# Altium schematic symbol library Ramp-generator.SCHLIB: 58 symbols
Pins are listed as number, name and electrical type; pins without a type are passive.

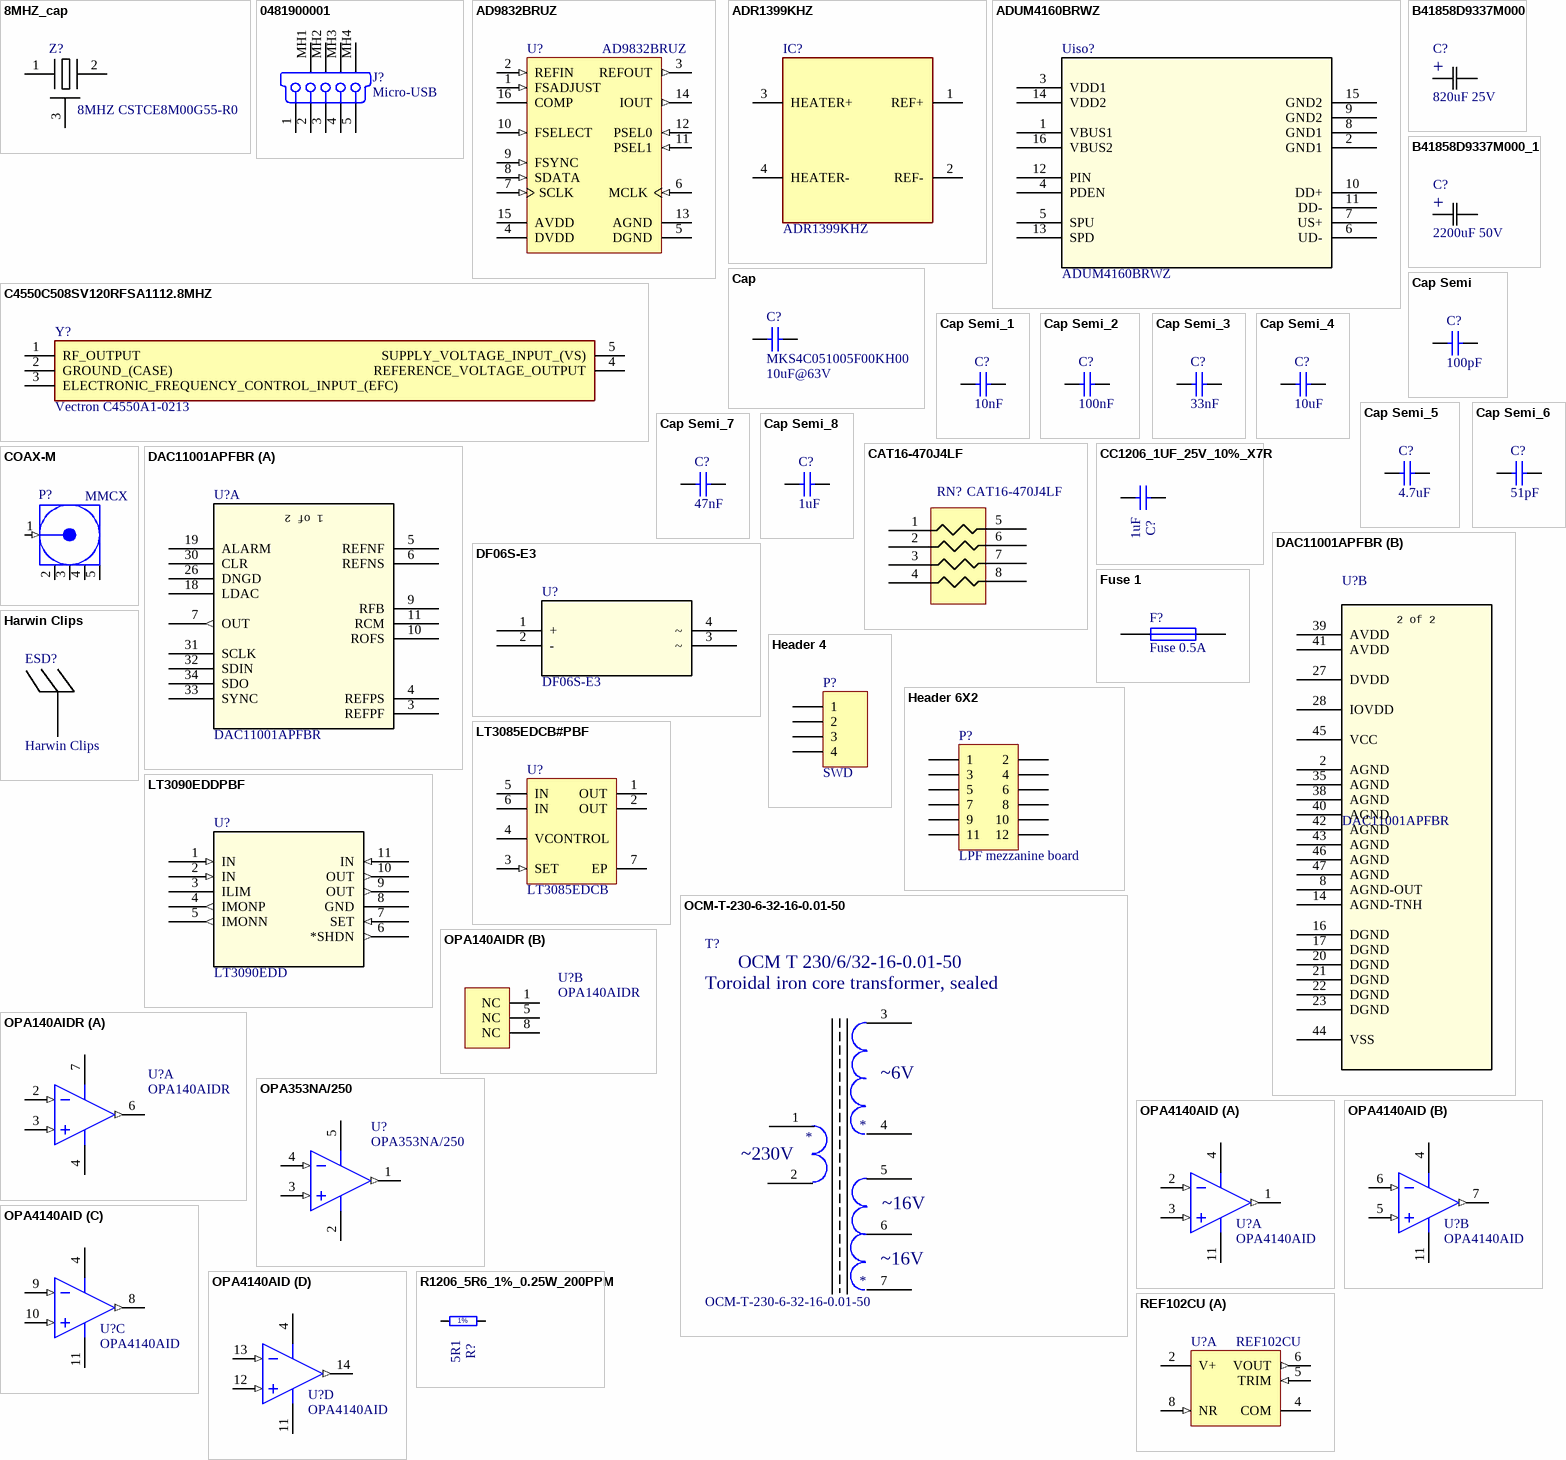
[diagram p0: symbols 8MHZ_cap to REF102CU]

## 8MHZ_cap
designator Z?, comment 8MHZ CSTCE8M00G55-R0
footprint PRQV8.00CR5010Y000
pins: 1 50, 2, 3 50

## 0481900001
designator J?, comment Micro-USB
USB On-The-Go (OTG) Mini-B Receptacle, Right Angle, SMT, 0.80mm (.031") Pitch, Solder Tabs with Back Cover, Recessed Type; Order: Molex 47346-0001
signal-integrity model USB Mini-B
footprint Miniusb-b
footprint 47346-0001 (Molex Mico-USB)
footprint 10118193-0001LF
pins: 1 V BUS (5V) "USB Vcc [Red]", 2 D- "USB Data - [White]", 3 D+ "USB Data + [Green]", 4 NC "Not Connected (or joined to pin 5 via resistor)", 5 GND "Ground [Black]", MH1 Tab "Shell", MH2 Tab "Shell", MH3 Tab "Shell", MH4 Tab "Shell"

## AD9832BRUZ
designator U?
25 MHz Direct Digital Synthesizer, Waveform Generator, 10-Bit, Serial, RU-16, 96 Tube, Pb-Free; Master fclk: 25MHz; Resolution (Bits): 10bit; Tuning Word Width (bits): 32bit; REFCLK Multiplier: No; Compliance Range (V): 1.35V; FS Iout (mA nom): 4mA; I Supply total (max): 15mA; DatasheetVersion: Rev. C; PackageVersion: Nov-2002; PackageReference: RU-16; PackageDescription: 16-Lead Thin Shrink Small Outline Package [TSSOP]; I/O Interface: Serial; Code_JEDEC: MO-153AB; ComponentLink1Description: Manufacturer URL; ComponentLink1URL: www.analog.com; ComponentLink2Description: Datasheet; ComponentLink2URL: http://www.analog.com/static/imported-files/data_sheets/AD9832.pdf; ComponentLink3Description: Package Specification; ComponentLink3URL: http://www.analog.com/static/imported-files/packages/36244347913743854010197452789RU16.pdf
footprint ADI-RU-16_N (TSOP, 16-Leads, Body 5x4.4mm, Pitch 0.65mm, IPC Medium Density)
footprint ADI-RU-16_L (TSOP, 16-Leads, Body 5x4.4mm, Pitch 0.65mm, IPC High Density)
footprint ADI-RU-16_M (TSOP, 16-Leads, Body 5x4.4mm, Pitch 0.65mm, IPC Low Density)
pins: 1 FSADJUST (in) "Full-Scale Adjust Control. A resistor (RSET) is connected between this pin and AGND. This determines the  magnitude of the full-scale DAC current. [see datasheet]", 2 REFIN (in) "Voltage Reference Input. The AD9832 can be used with either the on-board reference, which is available from   the REFOUT pin, or an external reference. [see datasheet]", 3 REFOUT (out) "Voltage Reference Output. The AD9832 has an on-board reference of value 1.21 V nominal. The reference is  available on the REFOUT pin. [see datasheet]", 4 DVDD (power) "Positive Power Supply for the Digital Section. A 0.1 uF decoupling capacitor should be connected between   DVDD and DGND. DVDD can have a value of 5 V +/- 10% or 3.3 V +/- 0%", 5 DGND (power) "Digital Ground", 6 MCLK (in) "Digital Clock Input. DDS output frequencies are expressed as a binary fraction of the frequency of MCLK. This  clock determines the output frequency accuracy and phase noise", 7 SCLK (in) "Serial Clock, Logic Input. Data is clocked into the AD9832 on each falling SCLK edge.", 8 SDATA (in) "Serial Data In, Logic Input. The 16-bit serial data-word is applied to this input.", 9 FSYNC (in) "Data Synchronization Signal, Logic Input. When this input goes low, the internal logic is informed that  a new word is being loaded into the devic", 10 FSELECT (in) "Frequency Select Input. FSELECT controls which frequency register, FREQ0 or FREQ1, is used in the phase  accumulator. The frequency register to be used can be selected using the FSELECT pin or the FSELECT bit. [see datasheet]", 11 PSEL1 (in) "Phase Select Input. The AD9832 has four phase registers. These registers can be used to alter the value being  input to the SIN ROM. [see datasheet]", 12 PSEL0 (in) "Phase Select Input. The AD9832 has four phase registers. These registers can be used to alter the value being  input to the SIN ROM. [see datasheet]", 13 AGND (power) "Analog Ground", 14 IOUT (out) "Current Output. This is a high impedance current source. A load resistor should be connected between IOUT and AGN", 15 AVDD (power) "Positive Power Supply for the Analog Section. A 0.1 uF decoupling capacitor should be connected between  AVDD and AGND. AVDD can have a value of 5 V +/- 10% or 3.3 V +/- 10", 16 COMP "Compensation Pin. This is a compensation pin for the internal reference amplifier. A 10 nF decoupling ceramic capacitor should be connected between COMP and AVDD."

## ADR1399KHZ
designator IC?
Integrated Circuit; Manufacturer_Name: Analog Devices; Datasheet Link: https://www.analog.com/media/en/technical-documentation/data-sheets/adr1399.pdf; Height: 2.667mm; Manufacturer_Part_Number: ADR1399KHZ
footprint ADR1399KHZ
pins: 1 REF+, 2 REF-, 3 HEATER+, 4 HEATER-

## ADUM4160BRWZ
designator Uiso?
No Description Available; Vendor: Analog Devices Inc; Built_By: EMA_UL_Team; SourceLibrary: Analog_2015-12-15; Manufacturer_Part_Number: ADUM4160BRWZ; Copyright: Copyright (C) 2018 Accelerated Designs. All rights reserved; RefDes: RefDes; Type: DEV
footprint RW_16_ADI
pins: 1 VBUS1, 2 GND1, 3 VDD1, 4 PDEN, 5 SPU, 6 UD-, 7 US+, 8 GND1, 9 GND2, 10 DD+, 11 DD-, 12 PIN, 13 SPD, 14 VDD2, 15 GND2, 16 VBUS2

## B41858D9337M000
designator C?, comment 820uF 25V
No Description Available; Manufacturer_Part_Number: B41858D9337M000; Vendor: TDK; Built_By: EMA_Matt; SourceLibrary: Add_to_database_2021-01-04; Type: DEV; Datasheet: https://product.tdk.com/info/en/documents/data_sheet/20/30/db/aec/B41858.pdf; Copyright: Copyright (C) 2018 Accelerated Designs. All rights reserved; RefDes: RefDes
footprint CAP_37M000_TDK
pins: 1, 2
text: +

## B41858D9337M000_1
designator C?, comment 2200uF 50V
No Description Available; Manufacturer_Part_Number: B41858D9337M000; Vendor: TDK; Built_By: EMA_Matt; SourceLibrary: Add_to_database_2021-01-04; Type: DEV; Datasheet: https://product.tdk.com/info/en/documents/data_sheet/20/30/db/aec/B41858.pdf; Copyright: Copyright (C) 2018 Accelerated Designs. All rights reserved; RefDes: RefDes
footprint CAP_37M000_TDK
pins: 1, 2
text: +

## C4550C508SV120RFSA1112.8MHZ
designator Y?, comment Vectron C4550A1-0213
Crystal or Oscillator; Height: 11.25mm; Manufacturer_Name: Vectron; Manufacturer_Part_Number: Vectron C4550A1-0213
footprint C4550C508SV120RFSA11128MHZ
pins: 1 RF_OUTPUT, 2 GROUND_(CASE), 3 ELECTRONIC_FREQUENCY_CONTROL_INPUT_(EFC), 4 REFERENCE_VOLTAGE_OUTPUT, 5 SUPPLY_VOLTAGE_INPUT_(VS)

## Cap
designator C?, comment MKS4C051005F00KH00  value 10uF@63V
Capacitor; Published: 8-Jun-2000; LatestRevisionDate: 17-Jul-2002; LatestRevisionNote: Re-released for DXP Platform.; PackageReference: RAD-0.3; Publisher: Altium Limited; PackageDescription: Radial Cap, Thru-Hole; 2 Leads; 0.3 in Pin Spacing; Oredr: MKS4C051005F00KH00
footprint RAD-0.3 (Radial Cap, Thru-Hole; 2 Leads; 0.3 in Pin Spacing)
simulation model CAP (Capacitor)
signal-integrity model Cap
footprint MKS4C051005F
pins: 1, 2

## Cap Semi
designator C?  value 100pF  (hidden comment: Cap Semi)
Capacitor (Semiconductor SIM Model); Published: 8-Jun-2000; LatestRevisionDate: 29-May-2009; LatestRevisionNote: IPC-7351 Footprint Added.; PackageReference: C1206; Publisher: Altium Limited; PackageDescription: Chip Capacitor
footprint C1206 (Chip Capacitor, Body 3.2x1.6mm, IPC High Density)
footprint 0402 (Chip Capacitor, Body 1.0x0.5mm, IPC High Density)
footprint C2512 (Chip Capacitor, Body 2.54x1.27mm, IPC High Density)
footprint 1608[0603] (Chip Capacitor, Body 1.6x0.8mm, IPC High Density)
footprint C1210 (Chip Capacitor, Body 3.2x2.5mm, IPC High Density)
simulation model CAP (Semiconductor Capacitor)
signal-integrity model Cap Semi
pins: 1, 2

## Cap Semi_1
designator C?, comment 10nF
Capacitor (Semiconductor SIM Model); Order: CC0603KRX7R8BB104; Published: 8-Jun-2000; LatestRevisionDate: 29-May-2009; LatestRevisionNote: IPC-7351 Footprint Added.; PackageReference: C1206; Publisher: Altium Limited; PackageDescription: Chip Capacitor; Value: 10nF
footprint C1206 (Chip Capacitor, Body 3.2x1.6mm, IPC High Density)
footprint 0402 (Chip Capacitor, Body 1.0x0.5mm, IPC High Density)
footprint C2512 (Chip Capacitor, Body 2.54x1.27mm, IPC High Density)
footprint 1608[0603] (Chip Capacitor, Body 1.6x0.8mm, IPC High Density)
footprint C1210 (Chip Capacitor, Body 3.2x2.5mm, IPC High Density)
simulation model CAP (Semiconductor Capacitor)
signal-integrity model Cap Semi
footprint 0402 AVX
footprint 1608[0603]_CAP (Chip Capacitor, Body 1.6x0.8mm, IPC High Density)
footprint CAP 0603
pins: 1, 2

## Cap Semi_2
designator C?, comment 100nF
Capacitor (Semiconductor SIM Model); Order: CC0603KRX7R8BB104; Published: 8-Jun-2000; LatestRevisionDate: 29-May-2009; LatestRevisionNote: IPC-7351 Footprint Added.; PackageReference: C1206; Publisher: Altium Limited; PackageDescription: Chip Capacitor; Value: 100nF
footprint C1206 (Chip Capacitor, Body 3.2x1.6mm, IPC High Density)
footprint 0402 (Chip Capacitor, Body 1.0x0.5mm, IPC High Density)
footprint C2512 (Chip Capacitor, Body 2.54x1.27mm, IPC High Density)
footprint 1608[0603] (Chip Capacitor, Body 1.6x0.8mm, IPC High Density)
footprint C1210 (Chip Capacitor, Body 3.2x2.5mm, IPC High Density)
simulation model CAP (Semiconductor Capacitor)
signal-integrity model Cap Semi
footprint 0402 AVX
footprint 1608[0603]_CAP (Chip Capacitor, Body 1.6x0.8mm, IPC High Density)
footprint CAP 0603
pins: 1, 2

## Cap Semi_3
designator C?, comment 33nF
Capacitor (Semiconductor SIM Model); Order: CC0603KRX7R8BB104; Published: 8-Jun-2000; LatestRevisionDate: 29-May-2009; LatestRevisionNote: IPC-7351 Footprint Added.; PackageReference: C1206; Publisher: Altium Limited; PackageDescription: Chip Capacitor; Value: 33nF
footprint C1206 (Chip Capacitor, Body 3.2x1.6mm, IPC High Density)
footprint 0402 (Chip Capacitor, Body 1.0x0.5mm, IPC High Density)
footprint C2512 (Chip Capacitor, Body 2.54x1.27mm, IPC High Density)
footprint 1608[0603] (Chip Capacitor, Body 1.6x0.8mm, IPC High Density)
footprint C1210 (Chip Capacitor, Body 3.2x2.5mm, IPC High Density)
simulation model CAP (Semiconductor Capacitor)
signal-integrity model Cap Semi
footprint 0402 AVX
footprint 1608[0603]_CAP (Chip Capacitor, Body 1.6x0.8mm, IPC High Density)
footprint CAP 0603
pins: 1, 2

## Cap Semi_4
designator C?, comment 10uF
Capacitor (Semiconductor SIM Model); Order: GRM31CR71A475KA01L; Published: 8-Jun-2000; LatestRevisionDate: 29-May-2009; LatestRevisionNote: IPC-7351 Footprint Added.; PackageReference: C1206; Publisher: Altium Limited; PackageDescription: Chip Capacitor; Value: 10uF
footprint C1206 (Chip Capacitor, Body 3.2x1.6mm, IPC High Density)
footprint 0402 (Chip Capacitor, Body 1.0x0.5mm, IPC High Density)
footprint C2512 (Chip Capacitor, Body 2.54x1.27mm, IPC High Density)
footprint 1608[0603] (Chip Capacitor, Body 1.6x0.8mm, IPC High Density)
footprint C1210 (Chip Capacitor, Body 3.2x2.5mm, IPC High Density)
simulation model CAP (Semiconductor Capacitor)
signal-integrity model Cap Semi
footprint 0402 AVX
footprint 1608[0603]_CAP (Chip Capacitor, Body 1.6x0.8mm, IPC High Density)
pins: 1, 2

## Cap Semi_5
designator C?, comment 4.7uF
Capacitor (Semiconductor SIM Model); Order: GRM31CR71A475KA01L; Published: 8-Jun-2000; LatestRevisionDate: 29-May-2009; LatestRevisionNote: IPC-7351 Footprint Added.; PackageReference: C1206; Publisher: Altium Limited; PackageDescription: Chip Capacitor; Value: 4.7uF
footprint C1206 (Chip Capacitor, Body 3.2x1.6mm, IPC High Density)
footprint 0402 (Chip Capacitor, Body 1.0x0.5mm, IPC High Density)
footprint C2512 (Chip Capacitor, Body 2.54x1.27mm, IPC High Density)
footprint 1608[0603] (Chip Capacitor, Body 1.6x0.8mm, IPC High Density)
footprint C1210 (Chip Capacitor, Body 3.2x2.5mm, IPC High Density)
simulation model CAP (Semiconductor Capacitor)
signal-integrity model Cap Semi
footprint 0402 AVX
footprint 1608[0603]_CAP (Chip Capacitor, Body 1.6x0.8mm, IPC High Density)
pins: 1, 2

## Cap Semi_6
designator C?, comment 51pF
Capacitor (Semiconductor SIM Model); Order: CC0603KRX7R8BB104; Published: 8-Jun-2000; LatestRevisionDate: 29-May-2009; LatestRevisionNote: IPC-7351 Footprint Added.; PackageReference: C1206; Publisher: Altium Limited; PackageDescription: Chip Capacitor; Value: 51pF
footprint C1206 (Chip Capacitor, Body 3.2x1.6mm, IPC High Density)
footprint 0402 (Chip Capacitor, Body 1.0x0.5mm, IPC High Density)
footprint C2512 (Chip Capacitor, Body 2.54x1.27mm, IPC High Density)
footprint 1608[0603] (Chip Capacitor, Body 1.6x0.8mm, IPC High Density)
footprint C1210 (Chip Capacitor, Body 3.2x2.5mm, IPC High Density)
simulation model CAP (Semiconductor Capacitor)
signal-integrity model Cap Semi
footprint 0402 AVX
footprint 1608[0603]_CAP (Chip Capacitor, Body 1.6x0.8mm, IPC High Density)
footprint CAP 0603
pins: 1, 2

## Cap Semi_7
designator C?, comment 47nF
Capacitor (Semiconductor SIM Model); Order: CC0603KRX7R8BB104; Published: 8-Jun-2000; LatestRevisionDate: 29-May-2009; LatestRevisionNote: IPC-7351 Footprint Added.; PackageReference: C1206; Publisher: Altium Limited; PackageDescription: Chip Capacitor; Value: 47nF
footprint C1206 (Chip Capacitor, Body 3.2x1.6mm, IPC High Density)
footprint 0402 (Chip Capacitor, Body 1.0x0.5mm, IPC High Density)
footprint C2512 (Chip Capacitor, Body 2.54x1.27mm, IPC High Density)
footprint 1608[0603] (Chip Capacitor, Body 1.6x0.8mm, IPC High Density)
footprint C1210 (Chip Capacitor, Body 3.2x2.5mm, IPC High Density)
simulation model CAP (Semiconductor Capacitor)
signal-integrity model Cap Semi
footprint 0402 AVX
footprint 1608[0603]_CAP (Chip Capacitor, Body 1.6x0.8mm, IPC High Density)
footprint CAP 0603
pins: 1, 2

## Cap Semi_8
designator C?, comment 1uF
Capacitor (Semiconductor SIM Model); Order: CC0603KRX7R8BB104; Published: 8-Jun-2000; LatestRevisionDate: 29-May-2009; LatestRevisionNote: IPC-7351 Footprint Added.; PackageReference: C1206; Publisher: Altium Limited; PackageDescription: Chip Capacitor; Value: 1uF
footprint C1206 (Chip Capacitor, Body 3.2x1.6mm, IPC High Density)
footprint 0402 (Chip Capacitor, Body 1.0x0.5mm, IPC High Density)
footprint C2512 (Chip Capacitor, Body 2.54x1.27mm, IPC High Density)
footprint 1608[0603] (Chip Capacitor, Body 1.6x0.8mm, IPC High Density)
footprint C1210 (Chip Capacitor, Body 3.2x2.5mm, IPC High Density)
simulation model CAP (Semiconductor Capacitor)
signal-integrity model Cap Semi
footprint 0402 AVX
footprint 1608[0603]_CAP (Chip Capacitor, Body 1.6x0.8mm, IPC High Density)
footprint CAP 0603
pins: 1, 2

## CAT16-470J4LF
designator RN?
footprint CAT16-470J4LF
pins: 1, 2, 3, 4, 5, 6, 7, 8

## CC1206_1UF_25V_10%_X7R
designator C?, comment 1uF
Non-polarised capacitor; Part Number: CC1206_1UF_25V_10%_X7R; Part Description: SMD Multilayer Chip Ceramic Capacitor; Manufacturer: GENERIC; Manufacturer1 Part Number: C1206C105K3RAC; Voltage: 25V; TC: X7R; Tolerance: ±10%; Component Kind: Standard; Component Type: Standard; Footprint: CAPC3216X140N; Pin Count: 2; Value: 1uF; Status: Preferred; Manufacturer Part Number: CC1206_1UF_25V_10%_X7R; Case: 1206; Mounted: Yes; Socket: No; SMD: Yes; Sense: No; Manufacturer1 Example: KEMET; Manufacturer1 ComponentHeight: 1.75mm; HelpURL: \\cern.ch\dfs\Applications\Altium\Datasheets\CC1206_X7R_KEMET.pdf; Author: CERN DEM JLC; CreateDate: 03.12.2007; LatestRevisionDate: 03.12.2007
footprint CAPC3216X140N
pins: 1, 2

## COAX-M
designator P?, comment MMCX
RF Coaxial PCB Connector, MMCX; Thru-Hole, Vertical Mount Plug,  50 Ohm Impedance; PackageDocument: Rev. A, 16-Jun-1997; PCB_Layout: Complies with manufacturer's recommendation.; DrillSize: Corresponds to nominal value.; Published: 15-Jul-2004; LatestRevisionDate: 15-Jul-2004; LatestRevisionNote: Component Replaced.; DatasheetDocument: 30-May-2003; PackageReference: 908-21103; Publisher: Altium Limited; ComponentLink1Description: Manufacturer Link; ComponentLink1URL: http://www.amphenolrf.com/
footprint MMCX2.54-V5 (Connector; RF Coaxial, MMCX, Thru-Hole; 5 Position; Vertical)
pins: 1 Signal (in) "Signal Pin", 2 GND (power), 3 GND (power), 4 GND (power), 5 GND (power)

## DAC11001APFBR
designator U?
No Description Available; Vendor: Texas Instruments; Built_By: EMA_Matt; SourceLibrary: Texas_Instruments_2020-07-20; Manufacturer_Part_Number: DAC11001APFBR; Copyright: Copyright (C) 2018 Accelerated Designs. All rights reserved; Datasheet: https://www.ti.com/lit/ds/symlink/dac11001a.pdf; RefDes: RefDes; Type: DEV
footprint QFP_APFBR_TEX
part A pins: 3 REFPF, 4 REFPS, 5 REFNF, 6 REFNS, 7 OUT (out), 9 RFB, 10 ROFS, 11 RCM, 18 LDAC, 19 ALARM, 26 DNGD, 30 CLR, 31 SCLK, 32 SDIN, 33 SYNC, 34 SDO
part B pins: 2 AGND, 8 AGND-OUT, 14 AGND-TNH, 16 DGND, 17 DGND, 20 DGND, 21 DGND, 22 DGND, 23 DGND, 27 DVDD (power), 28 IOVDD (power), 35 AGND, 38 AGND, 39 AVDD (power), 40 AGND, 41 AVDD (power), 42 AGND, 43 AGND, 44 VSS, 45 VCC (power), 46 AGND, 47 AGND
part A text: 1 of 2
part B text: 2 of 2

## DF06S-E3
designator U?
No Description Available; Vendor: Vishay; Built_By: EMA_UL_Team; SourceLibrary: Vishay_2020-02-10; Manufacturer_Part_Number: DF06S-E3; Copyright: Copyright (C) 2018 Accelerated Designs. All rights reserved; RefDes: RefDes; Type: DEV
footprint SO4_DFS_VIS
footprint SO4_DFS_VIS-M
pins: 1 +, 2 -, 3 ~, 4 ~

## Fuse 1
designator F?, comment Fuse 0.5A
Fuse; Published: 8-Jun-2000; LatestRevisionDate: 17-Jul-2002; LatestRevisionNote: Re-released for DXP Platform.; PackageReference: PIN-W2/E2.8; Publisher: Altium Limited; PackageDescription: Thru-Hole; 2 Leads
footprint PIN-W2/E2.8 (Thru-Hole; 2 Leads)
simulation model FUSE (Spice Subcircuit)
footprint FUSE
pins: 1, 2

## Harwin Clips
designator ESD?
Order: S0981-46R
footprint HARWIN - S0981-46R - CLIP
pins: 1

## Header 4
designator P?, comment SWD
Header, 4-Pin; LatestRevisionDate: 17-Jul-2002; LatestRevisionNote: Re-released for DXP Platform.; Publisher: Altium Limited
footprint HDR1X4 (Connector; Header; 4 Position)
signal-integrity model Connector
pins: 1, 2, 3, 4

## Header 6X2
designator P?, comment LPF mezzanine board
Header, 6-Pin, Dual row; LatestRevisionDate: 17-Jul-2002; LatestRevisionNote: Re-released for DXP Platform.; Publisher: Altium Limited
footprint HDR2X6 (Connector; Header; 6x2 Position)
signal-integrity model Connector
pins: 1, 2, 3, 4, 5, 6, 7, 8, 9, 10, 11, 12

## LT3085EDCB#PBF
designator U?, comment LT3085EDCB
Adjustable 500 mA Single Resistor Low Dropout Regulator, 0.3 mA Isupply, 6-pin SON (DCB-6), -40 to 125 degC, Pb-Free; Manufacturer: Linear Technology; PartNumber: LT3085EDCB#PBF; Extended Temp: E, I, MP; Initial Accuracy(%): 1; Isupply(mA): 0.3; Vin Max(V): 36; Vin Min(V): 1.2; DatasheetVersion: Rev. B; PackageVersion: Rev. A, 03/2011; PackageReference: DCB-6; PackageDescription: 6-Pin Plastic DFN, Body 2 x 3 mm, Pitch 0.5 mm; Supplier 1: Farnell; Supplier Part Number 1: 2308197; Supplier 2: Newark; Supplier Part Number 2: 78T3981; RoHS: TRUE; Mounting Technology: Surface Mount; Code_JEDEC: MO-229; ComponentLink1Description: Manufacturer URL; ComponentLink1URL: http://www.linear.com/; ComponentLink2Description: Datasheet; ComponentLink2URL: http://cds.linear.com/docs/en/datasheet/3085fb.pdf; ComponentLink3Description: Package Specification; ComponentLink3URL: http://www.linear.com/docs/en/packaging/(DCB6)%20DFN%2005-08-1715%20Rev%20A.pdf; Order: LT3085EDCB
footprint LT-DCB-6_V (SON, 6-Leads, Body 3x2mm, Pitch 0.5mm, Thermal Pad 1.65x1.35mm)
pins: 1 OUT (power) "This is the power output of the device. There must be a minimum load current of 1mA or the output may not regulate. A minimum 2.2uF output capacitor is required for stability.", 2 OUT (power) "This is the power output of the device. There must be a minimum load current of 1mA or the output may not regulate. A minimum 2.2uF output capacitor is required for stability.", 3 SET (in) "This pin is the non-inverting input to the error amplifier and the regulation set point for the device. A fixed current of 10uA flows out of this pin through a single external resistor, which programs the output voltage of (See Datasheet)", 4 VCONTROL (power) "This pin is the supply pin for the control circuitry of the device. The current flow into this pin is about 1.7% of the output current. For the device to regulate, this voltage must be more than 1.2V to 1.35V greater than (See Datasheet)", 5 IN (power) "This is the collector to the power device of the LT3085. The output load current is supplied through this pin. For the device to regulate, the voltage at this pin must be more than 0.1V to 0.5V greater than the output (See Datasheet)", 6 IN (power) "This is the collector to the power device of the LT3085. The output load current is supplied through this pin. For the device to regulate, the voltage at this pin must be more than 0.1V to 0.5V greater than the output (See Datasheet)", 7 EP (power) "OUT. Tie directly to Pins 1, 2/Pins 2, 3 directly at the PCB."

## LT3090EDDPBF
designator U?, comment LT3090EDD
Imported; Manufacturer_Part_Number: lt3090edd#pbf; Vendor: Linear Technology; Value: Value; Type: Type; RefDes: RefDes; Order: LT3090EDD
footprint DFN-10_DD
pins: 1 IN (in), 2 IN (in), 3 ILIM, 4 IMONP (out), 5 IMONN (out), 6 *SHDN (out), 7 SET (in), 8 GND (power), 9 OUT (out), 10 OUT (out), 11 IN (in)

## OCM-T-230-6-32-16-0.01-50
designator T?
footprint OCM-T-230-6-32-16-0.01-50
pins: 1, 2, 3, 4, 5, 6, 7
text: OCM T 230/6/32-16-0.01-50; Toroidal iron core transformer, sealed; ~6V; ~230V; ~16V

## OPA140AIDR
designator U?
11 MHz, Single Supply, Low Noise, Precision, Rail-to-Rail Output, JFET Amplifier, 4.5 to 36 V, -40 to 125 degC, 8-pin SOIC (D8), Green (RoHS & no Sb/Br); Manufacturer: Texas Instruments; CMRR(Min)(dB): 126; GBW(Typ)(MHz): 11; IIB(Max)(pA): 10; Iq per channel(Max)(mA): 2; Number of Channels: 1; Offset Drift(Typ)(uV/C): 0.35; Packing: LARGE T&R; Rating: Catalog; Slew Rate(Typ)(V/us): 20; Sub Family: High Supply Voltage Amplifier (>=30V), Low Input Bias Current Amp (<=10pA), Low Noise Amp (<=10nV/rtHz), Low Offset Voltage Amplifier (<=500uV), Precision Amplifier; Total Supply Voltage(Max)(+5V is 5, +/-5V is 10): 36; Total Supply Voltage(Min)(+5V is 5, +/-5V is 10): 4.5; Vio (25C)(Max)(mV): 0.12; DatasheetVersion: SBOS498A; PackageVersion: 4040047-3/M, 06/2011; PackageReference: D8; PackageDescription: 8-Pin Plastic Small Outline, Body 4.9 x 3.9 mm, Pitch 1.27 mm; Supplier 1: Digi-Key; Supplier Part Number 1: OPA140AIDR-ND; Supplier 2: Newark; Supplier Part Number 2: 21T3836; Supplier 3: Mouser; Supplier Part Number 3: 595-OPA140AIDR; Eco-Plan: Green (RoHS & no Sb/Br); Mounting Technology: Surface Mount; Code_JEDEC: MS-012; PartNumber: OPA140AIDR; ComponentLink1Description: Manufacturer URL; ComponentLink1URL: http://www.ti.com/; ComponentLink2Description: Datasheet; ComponentLink2URL: http://www.ti.com/lit/ds/symlink/opa140.pdf; ComponentLink3Description: Package Specification; ComponentLink3URL: http://www.ti.com/litv/pdf/msoi002j
footprint TI-D8_N (SOIC, 8-Leads, Body 4.9x3.9mm, Pitch 1.27mm, IPC Medium Density)
footprint TI-D8_L (SOIC, 8-Leads, Body 4.9x3.9mm, Pitch 1.27mm, IPC High Density)
footprint TI-D8_M (SOIC, 8-Leads, Body 4.9x3.9mm, Pitch 1.27mm, IPC Low Density)
part A pins: 2 IN- (in), 3 IN+ (in), 4 V- (power), 6 OUT (out), 7 V+ (power)
part B pins: 1 NC, 5 NC, 8 NC

## OPA353NA/250
designator U?
High-Speed, Single-Supply, Rail-to-Rail Operational Amplifier MicroAmplifier(TM) Series, 2.7 to 5.5 V, -40 to 85 degC, 5-pin SOT23 (DBV5), Green (RoHS & no Sb/Br); Manufacturer: Texas Instruments; CMRR(Min)(dB): 76; GBW(Typ)(MHz): 44; IIB(Max)(pA): 10; Iq per channel(Max)(mA): 8; Number of Channels: 1; Offset Drift(Typ)(uV/C): 5; Packing: SMALL T&R; Rating: Catalog; Slew Rate(Typ)(V/us): 22; Sub Family: High Output Current Amplifier (>=50mA), Low Input Bias Current Amp (<=10pA), Low Supply Voltage Amplifier (<=2.7V), Precision Amplifier; Total Supply Voltage(Max)(+5V is 5, +/-5V is 10): 5.5; Total Supply Voltage(Min)(+5V is 5, +/-5V is 10): 2.7; DatasheetVersion: SBOS103; PackageVersion: 4073253-4/K, 03/2006; PackageReference: DBV5; PackageDescription: 5-Pin Plastic Small Outline, Body 1.6 x 2.9 mm, Pitch 0.95 mm; Supplier 1: Digi-Key; Supplier Part Number 1: OPA353NATR-ND; Supplier 2: Digi-Key; Supplier Part Number 2: OPA353NACT-ND; Supplier 3: Digi-Key; Supplier Part Number 3: OPA353NADKR-ND; Supplier 4: Farnell; Supplier Part Number 4: 1207049; Supplier 5: Farnell; Supplier Part Number 5: 1207049RL; Supplier 6: Newark; Supplier Part Number 6: 35C1895; Supplier 7: Mouser; Supplier Part Number 7: 595-OPA353NA/250; Eco-Plan: Green (RoHS & no Sb/Br); Vio (25C)(Max)(mV): 8; Mounting Technology: Surface Mount; Code_JEDEC: MO-178; PartNumber: OPA353NA/250; ComponentLink1Description: Manufacturer URL; ComponentLink1URL: http://www.ti.com/; ComponentLink2Description: Datasheet; ComponentLink2URL: http://www.ti.com/lit/ds/symlink/opa353.pdf; ComponentLink3Description: Package Specification; ComponentLink3URL: http://www.ti.com/litv/pdf/mpds018i
footprint TI-DBV5_N (SOT23, 5-Leads, Body 2.9x1.6mm, Pitch 0.95mm, IPC Medium Density)
footprint TI-DBV5_L (SOT23, 5-Leads, Body 2.9x1.6mm, Pitch 0.95mm, IPC High Density)
footprint TI-DBV5_M (SOT23, 5-Leads, Body 2.9x1.6mm, Pitch 0.95mm, IPC Low Density)
pins: 1 OUT (out), 2 V- (power), 3 IN+ (in), 4 IN- (in), 5 V+ (power)

## OPA4140AID
designator U?
11 MHz, Single Supply, Low Noise, Precision, Rail-to-Rail Output, JFET Amplifier, 4.5 to 36 V, -40 to 125 degC, 14-pin SOIC (D14), Green (RoHS & no Sb/Br); Manufacturer: Texas Instruments; CMRR(Min)(dB): 126; GBW(Typ)(MHz): 11; IIB(Max)(pA): 10; Iq per channel(Max)(mA): 2; Number of Channels: 4; Offset Drift(Typ)(uV/C): 0.35; Packing: TUBE; Rating: Catalog; Slew Rate(Typ)(V/us): 20; Sub Family: High Supply Voltage Amplifier (>=30V), Low Input Bias Current Amp (<=10pA), Low Noise Amp (<=10nV/rtHz), Low Offset Voltage Amplifier (<=500uV), Precision Amplifier; Total Supply Voltage(Max)(+5V is 5, +/-5V is 10): 36; Total Supply Voltage(Min)(+5V is 5, +/-5V is 10): 4.5; Vio (25C)(Max)(mV): 0.12; DatasheetVersion: SBOS498A; PackageVersion: 4040047-5/M, 06/2011; PackageReference: D14; PackageDescription: 14-Pin Plastic Small Outline, Body 8.65 x 3.9 mm, Pitch 1.27 mm; Supplier 1: Digi-Key; Supplier Part Number 1: 296-28130-ND; Supplier 2: Farnell; Supplier Part Number 2: 1863107; Supplier 3: Newark; Supplier Part Number 3: 25T0266; Supplier 4: Mouser; Supplier Part Number 4: 595-OPA4140AID; Eco-Plan: Green (RoHS & no Sb/Br); Mounting Technology: Surface Mount; Code_JEDEC: MS-012; PartNumber: OPA4140AID; ComponentLink1Description: Manufacturer URL; ComponentLink1URL: http://www.ti.com/; ComponentLink2Description: Datasheet; ComponentLink2URL: http://www.ti.com/lit/ds/symlink/opa4140.pdf; ComponentLink3Description: Package Specification; ComponentLink3URL: http://www.ti.com/lit/ml/mpds177g/mpds177g.pdf
footprint TI-D14_N (SOIC, 14-Leads, Body 8.65x3.9mm, Pitch 1.27mm, IPC Medium Density)
footprint TI-D14_L (SOIC, 14-Leads, Body 8.65x3.9mm, Pitch 1.27mm, IPC High Density)
footprint TI-D14_M (SOIC, 14-Leads, Body 8.65x3.9mm, Pitch 1.27mm, IPC Low Density)
pins on every part: 4 V+ (power), 11 V- (power)
part A pins: 1 OUT A (out), 2 IN A- (in), 3 IN A+ (in)
part B pins: 5 IN B+ (in), 6 IN B- (in), 7 OUT B (out)
part C pins: 8 OUT C (out), 9 IN C- (in), 10 IN C+ (in)
part D pins: 12 IN D+ (in), 13 IN D- (in), 14 OUT D (out)

## R1206_5R6_1%_0.25W_200PPM
designator R?, comment 5R1
Resistor - 1%; Part Number: R1206_5R6_1%_0.25W_200PPM; Part Description: General Purpose Thick Film Chip Resistor; Manufacturer: GENERIC; Manufacturer1 Part Number: 232272465608L or RC1206FR-075R6L; Power: 0.25W; TC: ±200ppm/°C; PressFit: No; Component Kind: Standard; Component Type: Standard; Footprint: RESC3216X65N; Pin Count: 2; Value: 5R1; Status: Preferred; Tolerance: ±1%; Manufacturer Part Number: R1206_5R6_1%_0.25W_200PPM; Case: 1206; Mounted: Yes; Sense: No; Socket: No; SMD: Yes; Manufacturer1 Example: YAGEO PHYCOMP; Manufacturer1 ComponentHeight: 0.65mm; HelpURL: \\cern.ch\dfs\Applications\Altium\Datasheets\R1206_Phycomp_RC1206.pdf; Author: CERN DEM JLC; CreateDate: 24.06.2009; LatestRevisionDate: 17.10.2012
footprint RESC3216X65N
pins: 1, 2
text: 1%

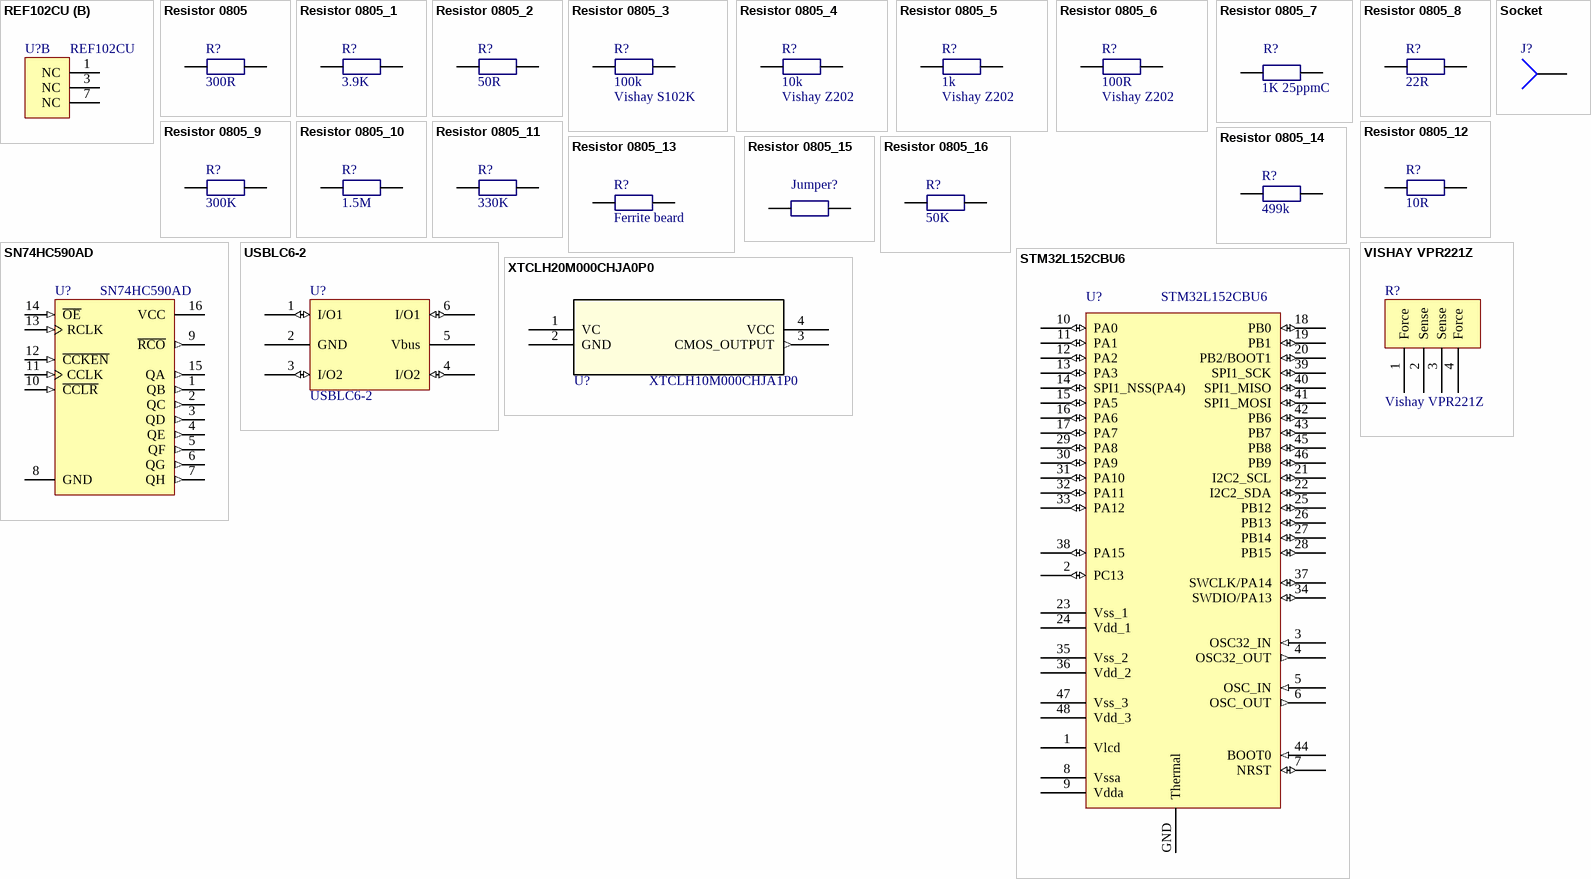
[diagram p1: symbols REF102CU to XTCLH20M000CHJA0P0]

## REF102CU
designator U?
10 V Precision Voltage Reference, -25 to 85 degC, 8-pin SOIC (D), Green (RoHS & no Sb/Br); Manufacturer: Texas Instruments; Initial Accuracy @ 25/deg C(%): 0.05; Iout/Iz(Max)(mA): 10; Iq(Max)(uA): 1400; Rating: Catalog; SubFamily: Series Voltage Reference; Temp Coeff(Max)(ppm/ degree C): 5; VI(Max)(V): 36; VI(Min)(V): 11.4; DatasheetVersion: SBVS022B; PackageVersion: 4040047-3/M; PackageReference: D8; PackageDescription: 8-Pin Plastic Small Outline, Body 4.9 x 3.9 mm, Pitch 1.27 mm; Supplier 1: Digi-Key; Supplier Part Number 1: 296-17006-5-ND; Supplier 2: Newark; Supplier Part Number 2: 90H3365; Supplier 3: Mouser; Supplier Part Number 3: 595-REF102CU; Eco-Plan: Green (RoHS & no Sb/Br); VO(V): 10; Mounting Technology: Surface Mount; Code_JEDEC: MS-012; PartNumber: REF102CU; ComponentLink1Description: Manufacturer URL; ComponentLink1URL: http://www.ti.com/; ComponentLink2Description: Datasheet; ComponentLink2URL: http://www.ti.com/general/docs/lit/getliterature.tsp?genericPartNumber=REF102&fileType=pdf; ComponentLink3Description: Package Specification; ComponentLink3URL: http://www.ti.com/litv/pdf/msoi002j
footprint TI-D8_N (SOIC, 8-Leads, Body 4.9x3.9mm, Pitch 1.27mm, IPC Medium Density)
part A pins: 2 V+ (power), 4 COM (power), 5 TRIM (in), 6 VOUT (out), 8 NR (in)
part B pins: 1 NC, 3 NC, 7 NC

## Resistor 0805
designator R?, comment 300R
Order: ERA-3AEB49R9V; Avail: 20; Value: 300R
footprint Resistor
footprint 1608[0603] (Chip Capacitor, Body 1.6x0.8mm, IPC High Density)
footprint 1608[0603]2
footprint 1608[0603]_RES
footprint Yegeo 0603
pins: 1 A, 2

## Resistor 0805_1
designator R?, comment 3.9K
Order: ERA-3AEB49R9V; Avail: 20; Value: 3.9K
footprint Resistor
footprint 1608[0603] (Chip Capacitor, Body 1.6x0.8mm, IPC High Density)
footprint 1608[0603]2
footprint 1608[0603]_RES
footprint CAP 0603 (Chip Capacitor, 2-Leads, Body 1,60x0,80mm, IPC Medium Density)
footprint 1608[0603] (Chip Capacitor, Body 1.6x0.8mm, IPC High Density)
pins: 1 A, 2

## Resistor 0805_2
designator R?, comment 50R
Order: ERA-3AEB49R9V; Avail: 20; Value: 50R
footprint Resistor
footprint 1608[0603] (Chip Capacitor, Body 1.6x0.8mm, IPC High Density)
footprint 1608[0603]2
footprint 1608[0603]_RES
pins: 1 A, 2

## Resistor 0805_3
designator R?, comment 100k  Order: Vishay S102K
Avail: 20; Value: 100k
footprint Resistor
footprint 1608[0603] (Chip Capacitor, Body 1.6x0.8mm, IPC High Density)
footprint 1608[0603]2
footprint 1608[0603]_RES
footprint Vishay S102K
pins: 1 A, 2

## Resistor 0805_4
designator R?, comment 10k  Order: Vishay Z202
Avail: 20; Value: 10k
footprint Resistor
footprint 1608[0603] (Chip Capacitor, Body 1.6x0.8mm, IPC High Density)
footprint 1608[0603]2
footprint 1608[0603]_RES
footprint Vishay Z202
pins: 1 A, 2

## Resistor 0805_5
designator R?, comment 1k  Order: Vishay Z202
Avail: 20; Value: 1k
footprint Resistor
footprint 1608[0603] (Chip Capacitor, Body 1.6x0.8mm, IPC High Density)
footprint 1608[0603]2
footprint 1608[0603]_RES
footprint Vishay Z202
pins: 1 A, 2

## Resistor 0805_6
designator R?, comment 100R  Order: Vishay Z202
Avail: 20; Value: 100R
footprint Resistor
footprint 1608[0603] (Chip Capacitor, Body 1.6x0.8mm, IPC High Density)
footprint 1608[0603]2
footprint 1608[0603]_RES
footprint Vishay Z202
pins: 1 A, 2

## Resistor 0805_7
designator R?, comment 1K 25ppmC
Order: ERA-3AEB49R9V; Avail: 20; Value: 1K 25ppmC
footprint Resistor
footprint 1608[0603] (Chip Capacitor, Body 1.6x0.8mm, IPC High Density)
footprint 1608[0603]2
footprint 1608[0603]_RES
pins: 1 A, 2

## Resistor 0805_8
designator R?, comment 22R
Order: CR0603-JW-220GLF; Avail: 20; Value: 22R
footprint 1608[0603] (Chip Capacitor, Body 1.6x0.8mm, IPC High Density)
pins: 1 A, 2

## Resistor 0805_9
designator R?, comment 300K
Order: ERA-3AEB4992V; Avail: 20; Value: 300K
footprint Resistor
footprint 1608[0603] (Chip Capacitor, Body 1.6x0.8mm, IPC High Density)
footprint 1608[0603]2
footprint 1608[0603]_RES
pins: 1 A, 2

## Resistor 0805_10
designator R?, comment 1.5M
Order: ERA-3AEB2493V; Avail: 20; Value: 1.5M
footprint Resistor
footprint 1608[0603] (Chip Capacitor, Body 1.6x0.8mm, IPC High Density)
footprint 1608[0603]2
footprint 1608[0603]_RES
footprint 6-0805_M (Chip Resistor, Body 2.0x1.2mm, IPC Low Density)
pins: 1 A, 2

## Resistor 0805_11
designator R?, comment 330K
Order: ERA-3AEB2493V; Avail: 20; Value: 330K
footprint Resistor
footprint 1608[0603] (Chip Capacitor, Body 1.6x0.8mm, IPC High Density)
footprint 1608[0603]2
footprint 1608[0603]_RES
pins: 1 A, 2

## Resistor 0805_12
designator R?, comment 10R
Order: ERA-3AEB4992V; Avail: 20; Value: 10R
footprint Resistor
footprint 1608[0603] (Chip Capacitor, Body 1.6x0.8mm, IPC High Density)
footprint 1608[0603]2
footprint 1608[0603]_RES
pins: 1 A, 2

## Resistor 0805_13
designator R?, comment Ferrite beard
Order: ERA-3AEB4992V; Avail: 20; Value: Ferrite beard
footprint Resistor
footprint 1608[0603] (Chip Capacitor, Body 1.6x0.8mm, IPC High Density)
footprint 1608[0603]2
footprint 1608[0603]_RES
footprint CC1206JRNPOBBN100
pins: 1 A, 2

## Resistor 0805_14
designator R?, comment 499k
Order: ERA-3AEB2493V; Avail: 20; Value: 499k
footprint Resistor
footprint 1608[0603] (Chip Capacitor, Body 1.6x0.8mm, IPC High Density)
footprint 1608[0603]2
footprint 1608[0603]_RES
footprint 6-0805_M (Chip Resistor, Body 2.0x1.2mm, IPC Low Density)
pins: 1 A, 2

## Resistor 0805_15
designator Jumper?  (net tie, no BOM)
Avail: 20
footprint Resistor
footprint 1608[0603] (Chip Capacitor, Body 1.6x0.8mm, IPC High Density)
footprint 1608[0603]2
footprint 1608[0603]_RES
footprint GND-AGND
footprint 0402 jumper
pins: 1 A, 2

## Resistor 0805_16
designator R?, comment 50K
Order: ERA-3AEB49R9V; Avail: 20; Value: 50K
footprint Resistor
footprint 1608[0603] (Chip Capacitor, Body 1.6x0.8mm, IPC High Density)
footprint 1608[0603]2
footprint 1608[0603]_RES
footprint Yegeo 0603
pins: 1 A, 2

## SN74HC590AD
designator U?
8-Bit Binary Counter with 3-State Output Registers; Published: 8-Jun-2000; LatestRevisionDate: 13-Apr-2006; LatestRevisionNote: IPC-7351 Footprint Added.; DatasheetVersion: May-1997; PackageVersion: Jan-1998; PackageReference: D016; Publisher: Altium Limited; PackageDescription: 16-Pin Small Outline Integrated Circuit 1.27 mm Pitch; Code_IPC: SOIC127P600-16; ComponentLink1Description: Manufacturer Link; ComponentLink1URL: http://www.ti.com/; ComponentLink2Description: Datasheet; ComponentLink2URL: http://www-s.ti.com/sc/ds/sn74hc590a.pdf
footprint D016_N (SOIC, 16-Leads, Body 9.9x3.9mm, Pitch 1.27mm, IPC Medium Density)
footprint D016_L (SOIC, 16-Leads, Body 9.9x3.9mm, Pitch 1.27mm, IPC High Density)
footprint D016_M (SOIC, 16-Leads, Body 9.9x3.9mm, Pitch 1.27mm, IPC Low Density)
3D model D016 (16-Pin Small Outline Integrated Circuit 1.27 mm Pitch)
signal-integrity model SN74HC590AD
pins: 1 QB (out), 2 QC (out), 3 QD (out), 4 QE (out), 5 QF (out), 6 QG (out), 7 QH (out), 8 GND (power), 9 ~{RCO} (out), 10 ~{CCLR} (in), 11 CCLK (in), 12 ~{CCKEN} (in), 13 RCLK (in), 14 ~{OE} (in), 15 QA (out), 16 VCC (power)

## Socket
designator J?  (value not drawn)
LatestRevisionDate: 17-Jul-2002; LatestRevisionNote: Re-released for DXP Platform.; Publisher: Altium Limited
footprint PIN1 (Connector; Socket)
signal-integrity model Connector
pins: 1

## STM32L152CBU6
designator U?
footprint UFQFPN48
footprint UFQFPN48
pins: 1 Vlcd (power), 2 PC13 (io), 3 OSC32_IN (in), 4 OSC32_OUT (out), 5 OSC_IN (in), 6 OSC_OUT (out), 7 NRST (io), 8 Vssa (power), 9 Vdda (power), 10 PA0 (io), 11 PA1 (io), 12 PA2 (io), 13 PA3 (io), 14 SPI1_NSS(PA4) (io), 15 PA5 (io), 16 PA6 (io), 17 PA7 (io), 18 PB0 (io), 19 PB1 (io), 20 PB2/BOOT1 (io), 21 I2C2_SCL (io), 22 I2C2_SDA (io), 23 Vss_1 (power), 24 Vdd_1 (power), 25 PB12 (io), 26 PB13 (io), 27 PB14 (io), 28 PB15 (io), 29 PA8 (io), 30 PA9 (io), 31 PA10 (io), 32 PA11 (io), 33 PA12 (io), 34 SWDIO/PA13 (io), 35 Vss_2 (power), 36 Vdd_2 (power), 37 SWCLK/PA14 (io), 38 PA15 (io), 39 SPI1_SCK (io), 40 SPI1_MISO (io), 41 SPI1_MOSI (io), 42 PB6 (io), 43 PB7 (io), 44 BOOT0 (in), 45 PB8 (io), 46 PB9 (io), 47 Vss_3 (power), 48 Vdd_3 (power), GND Thermal (power)

## USBLC6-2
designator U?
Avail: 1; Order: USBLC6-2
footprint SOT23-6L
pins: 1 I/O1 (io), 2 GND (power), 3 I/O2 (io), 4 I/O2 (io), 5 Vbus (power), 6 I/O1 (io)

## VISHAY VPR221Z
designator R?, comment Vishay VPR221Z
footprint VISHAY VPR221Z
pins: 1 Force, 2 Sense, 3 Sense, 4 Force

## XTCLH20M000CHJA0P0
designator U?, comment XTCLH10M000CHJA1P0
No Description Available; Manufacturer_Part_Number: XTCLH20M000CHJA0P0; Vendor: Murata; Built_By: EMA_Cory; SourceLibrary: Murata_2020-04-02; Datasheet: https://www.murata.com/en/products/productdata/8801053966366/SPEC-XTCLH20M000CHJA0P0.pdf; Copyright: Copyright (C) 2018 Accelerated Designs. All rights reserved; RefDes: RefDes; Type: DEV
footprint XTCLH20M000CHJA0P0_MUR
pins: 1 VC, 2 GND, 3 CMOS_OUTPUT (out), 4 VCC (power)